# Altium schematic symbol library osc_dev.SchLib: 37 symbols
Pins are listed as number, name and electrical type; pins without a type are passive.

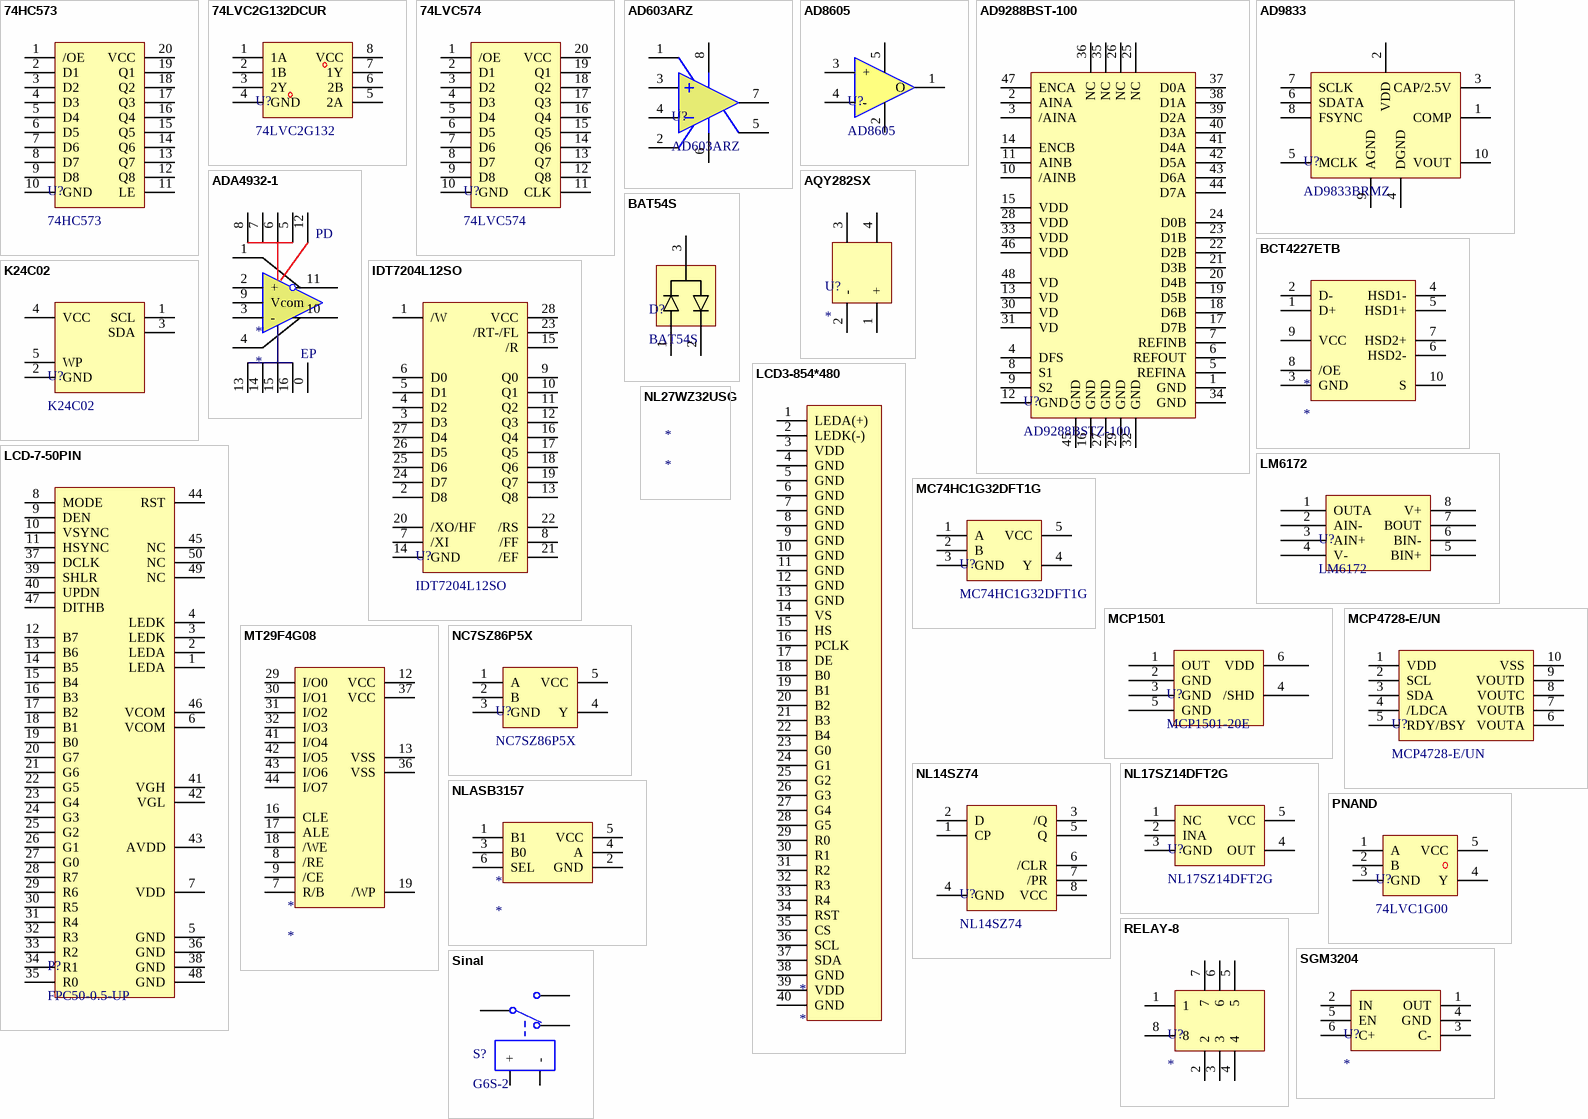
[diagram p0: symbols 74HC573 to Sinal]

## 74HC573
designator U?
footprint TSSOP20
pins: 1 /OE, 2 D1, 3 D2, 4 D3, 5 D4, 6 D5, 7 D6, 8 D7, 9 D8, 10 GND, 11 LE, 12 Q8, 13 Q7, 14 Q6, 15 Q5, 16 Q4, 17 Q3, 18 Q2, 19 Q1, 20 VCC

## 74LVC2G132DCUR
designator U?, comment 74LVC2G132
footprint VFSOP-8
pins: 1 1A, 2 1B, 3 2Y, 4 GND, 5 2A, 6 2B, 7 1Y, 8 VCC

## 74LVC574
designator U?
footprint TSSOP20 (Footprint not found)
pins: 1 /OE, 2 D1, 3 D2, 4 D3, 5 D4, 6 D5, 7 D6, 8 D7, 9 D8, 10 GND, 11 CLK, 12 Q8, 13 Q7, 14 Q6, 15 Q5, 16 Q4, 17 Q3, 18 Q2, 19 Q1, 20 VCC

## AD603ARZ
designator U?
pins: 1 G+, 2 G-, 3 IN+, 4 IN-, 5 FB, 6 V-, 7 OUT, 8 V+

## AD8605
designator U?
footprint SOT23-5 (Footprint not found)
pins: 1 O, 2 V- (power), 3 +, 4 -, 5 V+

## AD9288BST-100
designator U?, comment AD9288BSTZ-100
footprint LQFP48
pins: 1 GND, 2 AINA, 3 /AINA, 4 DFS, 5 REFINA, 6 REFOUT, 7 REFINB, 8 S1, 9 S2, 10 /AINB, 11 AINB, 12 GND, 13 VD, 14 ENCB, 15 VDD, 16 GND, 17 D7B, 18 D6B, 19 D5B, 20 D4B, 21 D3B, 22 D2B, 23 D1B, 24 D0B, 25 NC, 26 NC, 27 GND, 28 VDD, 29 GND, 30 VD, 31 VD, 32 GND, 33 VDD, 34 GND, 35 NC, 36 NC, 37 D0A, 38 D1A, 39 D2A, 40 D3A, 41 D4A, 42 D5A, 43 D6A, 44 D7A, 45 GND, 46 VDD, 47 ENCA, 48 VD

## AD9833
designator U?, comment AD9833BRMZ
price: 3.5
footprint MSOP10
pins: 1 COMP, 2 VDD, 3 CAP/2.5V, 4 DGND, 5 MCLK, 6 SDATA, 7 SCLK, 8 FSYNC, 9 AGND, 10 VOUT

## ADA4932-1
designator *
pins: 0 EP, 1, 2 +, 3 -, 4, 5, 6, 7, 8, 9 Vcom, 10, 11 10, 12 PD, 13, 14, 15, 16

## AQY282SX
designator U?
footprint SOP4
pins: 1 +, 2 -, 3, 4

## BAT54S
designator D?
footprint SOT-23-3
pins: 1, 2, 3

## BCT4227ETB
designator *
pins: 1 D+, 2 D-, 3 GND, 4 HSD1-, 5 HSD1+, 6 HSD2-, 7 HSD2+, 8 /OE, 9 VCC, 10 S

## IDT7204L12SO
designator U?
footprint SO28-3
pins: 1 /W, 2 D8, 3 D3, 4 D2, 5 D1, 6 D0, 7 /XI, 8 /FF, 9 Q0, 10 Q1, 11 Q2, 12 Q3, 13 Q8, 14 GND, 15 /R, 16 Q4, 17 Q5, 18 Q6, 19 Q7, 20 /XO/HF, 21 /EF, 22 /RS, 23 /RT-/FL, 24 D7, 25 D6, 26 D5, 27 D4, 28 VCC

## K24C02
designator U?
footprint SOT23-5
pins: 1 SCL, 2 GND, 3 SDA, 4 VCC, 5 WP

## LCD3-854*480
designator *
pins: 1 LEDA(+), 2 LEDK(-), 3 VDD, 4 GND, 5 GND, 6 GND, 7 GND, 8 GND, 9 GND, 10 GND, 11 GND, 12 GND, 13 GND, 14 VS, 15 HS, 16 PCLK, 17 DE, 18 B0, 19 B1, 20 B2, 21 B3, 22 B4, 23 G0, 24 G1, 25 G2, 26 G3, 27 G4, 28 G5, 29 R0, 30 R1, 31 R2, 32 R3, 33 R4, 34 RST, 35 CS, 36 SCL, 37 SDA, 38 GND, 39 VDD, 40 GND

## LCD-7-50PIN
designator P?, comment FPC50-0.5-UP
footprint FPC50-0.5 (Footprint not found)
pins: 1 LEDA, 2 LEDA, 3 LEDK, 4 LEDK, 5 GND, 6 VCOM, 7 VDD, 8 MODE, 9 DEN, 10 VSYNC, 11 HSYNC, 12 B7, 13 B6, 14 B5, 15 B4, 16 B3, 17 B2, 18 B1, 19 B0, 20 G7, 21 G6, 22 G5, 23 G4, 24 G3, 25 G2, 26 G1, 27 G0, 28 R7, 29 R6, 30 R5, 31 R4, 32 R3, 33 R2, 34 R1, 35 R0, 36 GND, 37 DCLK, 38 GND, 39 SHLR, 40 UPDN, 41 VGH, 42 VGL, 43 AVDD, 44 RST, 45 NC, 46 VCOM, 47 DITHB, 48 GND, 49 NC, 50 NC

## LM6172
designator U?
footprint SOP-8 (Footprint not found)
pins: 1 OUTA, 2 AIN-, 3 AIN+, 4 V-, 5 BIN+, 6 BIN-, 7 BOUT, 8 V+

## MC74HC1G32DFT1G
designator U?
footprint SC70-5
pins: 1 A, 2 B, 3 GND, 4 Y, 5 VCC

## MCP1501
designator U?, comment MCP1501-20E
footprint SOT23-6 (Footprint not found)
pins: 1 OUT, 2 GND, 3 GND, 4 /SHD, 5 GND, 6 VDD

## MCP4728-E/UN
designator U?
pins: 1 VDD, 2 SCL, 3 SDA, 4 /LDCA, 5 RDY/BSY, 6 VOUTA, 7 VOUTB, 8 VOUTC, 9 VOUTD, 10 VSS

## MT29F4G08
designator *
pins: 7 R/B, 8 /RE, 9 /CE, 12 VCC, 13 VSS, 16 CLE, 17 ALE, 18 /WE, 19 /WP, 29 I/O0, 30 I/O1, 31 I/O2, 32 I/O3, 36 VSS, 37 VCC, 41 I/O4, 42 I/O5, 43 I/O6, 44 I/O7

## NC7SZ86P5X
designator U?
footprint sc70-5 (Footprint not found)
pins: 1 A, 2 B, 3 GND, 4 Y, 5 VCC

## NL14SZ74
designator U?
footprint VFSOP-8
pins: 1 CP, 2 D, 3 /Q, 4 GND, 5 Q, 6 /CLR, 7 /PR, 8 VCC

## NL17SZ14DFT2G
designator U?
footprint SC70-5
pins: 1 NC, 2 INA, 3 GND, 4 OUT, 5 VCC

## NL27WZ32USG
designator *

## NLASB3157
designator *
pins: 1 B1, 2 GND, 3 B0, 4 A, 5 VCC, 6 SEL

## PNAND
designator U?, comment 74LVC1G00
footprint SOT23-5
pins: 1 A, 2 B, 3 GND, 4 Y, 5 VCC

## RELAY-8
designator U?
footprint RELAY-GS6-8
pins: 1, 2, 3, 4, 5, 6, 7, 8

## SGM3204
designator U?
footprint Model Name (Footprint not found)
footprint SOT23-6 (Footprint not found)
pins: 1 OUT, 2 IN, 3 C-, 4 GND, 5 EN, 6 C+

## Sinal
designator S?, comment G6S-2
pins: 1 +, 2, 3, 4, 5 -

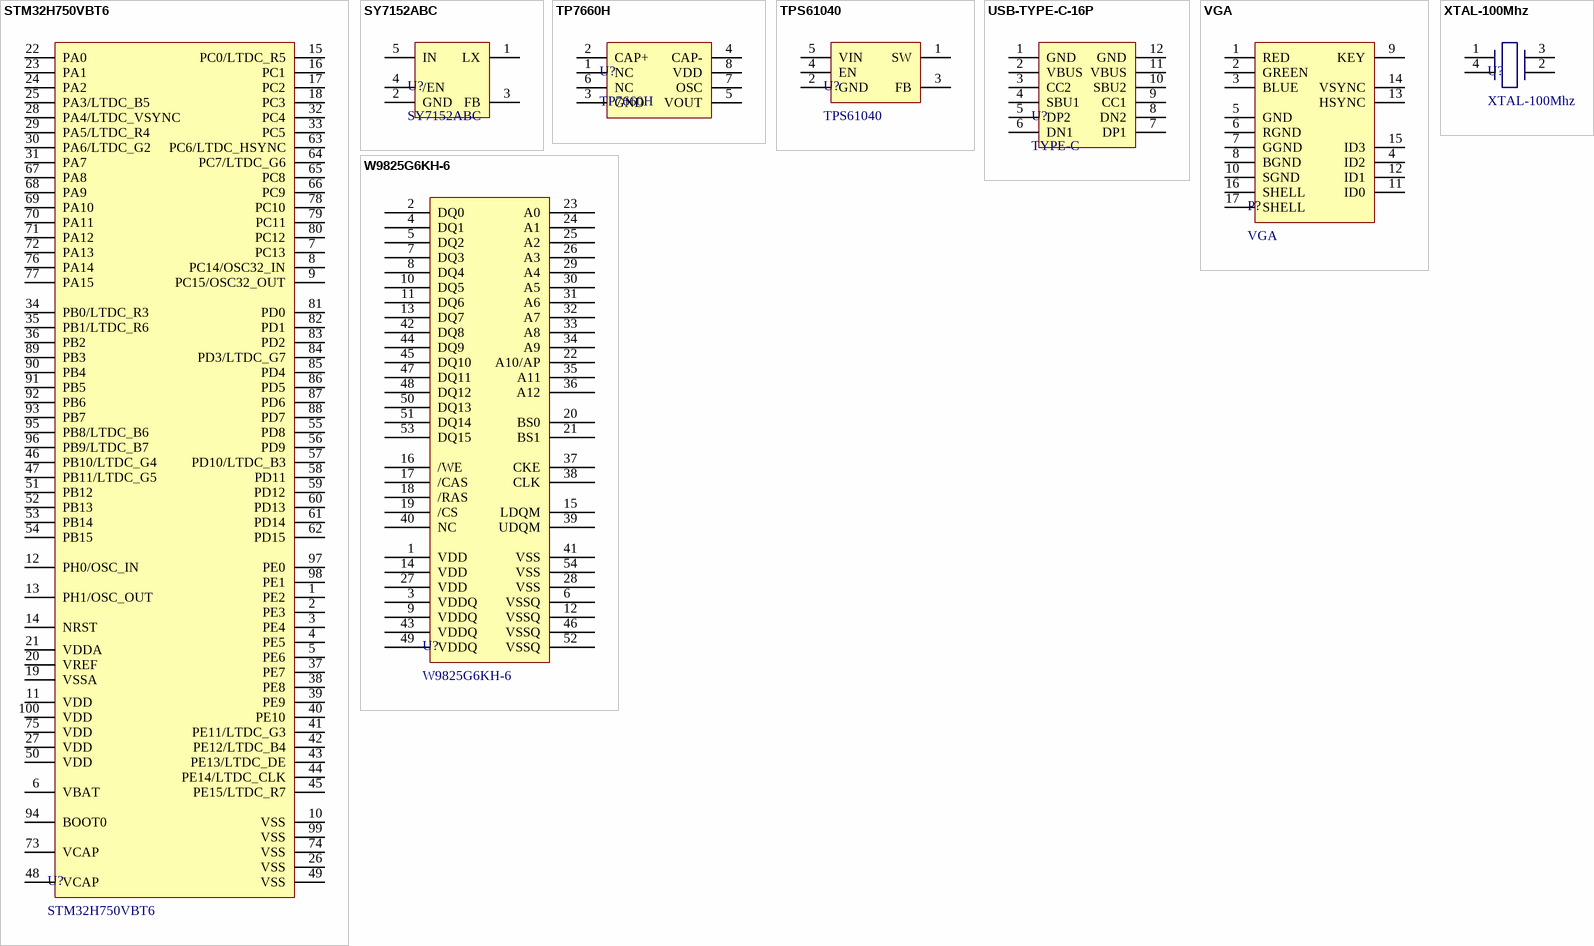
[diagram p1: symbols STM32H750VBT6 to XTAL-100Mhz]

## STM32H750VBT6
designator U?
footprint LQFP100 (Footprint not found)
pins: 1 PE2, 2 PE3, 3 PE4, 4 PE5, 5 PE6, 6 VBAT, 7 PC13, 8 PC14/OSC32_IN, 9 PC15/OSC32_OUT, 10 VSS, 11 VDD, 12 PH0/OSC_IN, 13 PH1/OSC_OUT, 14 NRST, 15 PC0/LTDC_R5, 16 PC1, 17 PC2, 18 PC3, 19 VSSA, 20 VREF, 21 VDDA, 22 PA0, 23 PA1, 24 PA2, 25 PA3/LTDC_B5, 26 VSS, 27 VDD, 28 PA4/LTDC_VSYNC, 29 PA5/LTDC_R4, 30 PA6/LTDC_G2, 31 PA7, 32 PC4, 33 PC5, 34 PB0/LTDC_R3, 35 PB1/LTDC_R6, 36 PB2, 37 PE7, 38 PE8, 39 PE9, 40 PE10, 41 PE11/LTDC_G3, 42 PE12/LTDC_B4, 43 PE13/LTDC_DE, 44 PE14/LTDC_CLK, 45 PE15/LTDC_R7, 46 PB10/LTDC_G4, 47 PB11/LTDC_G5, 48 VCAP, 49 VSS, 50 VDD, 51 PB12, 52 PB13, 53 PB14, 54 PB15, 55 PD8, 56 PD9, 57 PD10/LTDC_B3, 58 PD11, 59 PD12, 60 PD13, 61 PD14, 62 PD15, 63 PC6/LTDC_HSYNC, 64 PC7/LTDC_G6, 65 PC8, 66 PC9, 67 PA8, 68 PA9, 69 PA10, 70 PA11, 71 PA12, 72 PA13, 73 VCAP, 74 VSS, 75 VDD, 76 PA14, 77 PA15, 78 PC10, 79 PC11, 80 PC12, 81 PD0, 82 PD1, 83 PD2, 84 PD3/LTDC_G7, 85 PD4, 86 PD5, 87 PD6, 88 PD7, 89 PB3, 90 PB4, 91 PB5, 92 PB6, 93 PB7, 94 BOOT0, 95 PB8/LTDC_B6, 96 PB9/LTDC_B7, 97 PE0, 98 PE1, 99 VSS, 100 VDD

## SY7152ABC
designator U?
footprint SOT23-6
pins: 1 LX, 2 GND, 3 FB, 4 /EN, 5 IN, 6 hidden

## TP7660H
designator U?
footprint SOP-8
pins: 1 NC, 2 CAP+, 3 GND, 4 CAP-, 5 VOUT, 6 NC, 7 OSC, 8 VDD

## TPS61040
designator U?
footprint SOT23-5
pins: 1 SW, 2 GND, 3 FB, 4 EN, 5 VIN

## USB-TYPE-C-16P
designator U?, comment TYPE-C
footprint TYPE-C-16P
pins: 1 GND, 2 VBUS, 3 CC2, 4 SBU1, 5 DP2, 6 DN1, 7 DP1, 8 DN2, 9 CC1, 10 SBU2, 11 VBUS, 12 GND

## VGA
designator P?
footprint VGA-DB15
pins: 1 RED, 2 GREEN, 3 BLUE, 4 ID2, 5 GND, 6 RGND, 7 GGND, 8 BGND, 9 KEY, 10 SGND, 11 ID0, 12 ID1, 13 HSYNC, 14 VSYNC, 15 ID3, 16 SHELL, 17 SHELL

## W9825G6KH-6
designator U?
pins: 1 VDD, 2 DQ0, 3 VDDQ, 4 DQ1, 5 DQ2, 6 VSSQ, 7 DQ3, 8 DQ4, 9 VDDQ, 10 DQ5, 11 DQ6, 12 VSSQ, 13 DQ7, 14 VDD, 15 LDQM, 16 /WE, 17 /CAS, 18 /RAS, 19 /CS, 20 BS0, 21 BS1, 22 A10/AP, 23 A0, 24 A1, 25 A2, 26 A3, 27 VDD, 28 VSS, 29 A4, 30 A5, 31 A6, 32 A7, 33 A8, 34 A9, 35 A11, 36 A12, 37 CKE, 38 CLK, 39 UDQM, 40 NC, 41 VSS, 42 DQ8, 43 VDDQ, 44 DQ9, 45 DQ10, 46 VSSQ, 47 DQ11, 48 DQ12, 49 VDDQ, 50 DQ13, 51 DQ14, 52 VSSQ, 53 DQ15, 54 VSS

## XTAL-100Mhz
designator U?
footprint 7050
pins: 1, 2, 3, 4